# Altium footprint library tb6612_sparkfun.PcbLib: 1 footprints
Each footprint in its own frame and in the unit in brackets; x right, y up, seen from the top. Pads: shape width x height; smd on the part's side, far side on the other; paste and mask are expansions set on the pad; w line width, h text height; cw(c..) or ccw(c..) is an arc to the next point about the centre after c.
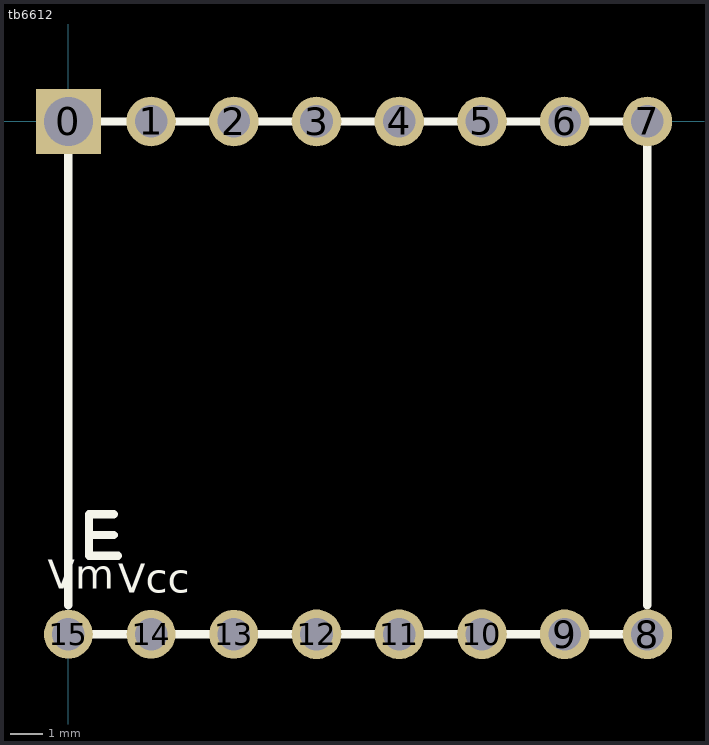
[diagram p0: the footprint, top view; thin cyan lines are the x and y axes]

## tb6612 [mil]
pads (16):
  rect 78.74x78.74 hole 59.06: 0(0,0)
  round 60 hole 39.37: 1(100,0) 2(200,0) 3(300,0) 4(400,0) 5(500,0) 6(600,0) 7(700,0) 8(700,-620) 9(600,-620) 10(500,-620) 11(400,-620) 12(300,-620)
  round 59.06 hole 39.37: 13(200,-620) 14(100,-620) 15(0,-620)
Top Overlay:
  lines w10: 0,-620 700,-620 ; 0,-585 0,0 700,0 700,-585 ; 25,-500 55,-500 ; 55,-475 25,-475 25,-525 60,-525
  text "Vm" at -25,-565 h35.43
  text "Vcc" at 60,-570 h35.43
3D body "TB6612FNG Motor Driver.STEP": height 139.5, standoff -1, extent -53,-783 773,40